# Altium footprint library Component Library.PcbLib: 16 footprints
Each footprint in its own frame and in the unit in brackets; x right, y up, seen from the top. Pads: shape width x height; smd on the part's side, far side on the other; paste and mask are expansions set on the pad; w line width, h text height; cw(c..) or ccw(c..) is an arc to the next point about the centre after c.
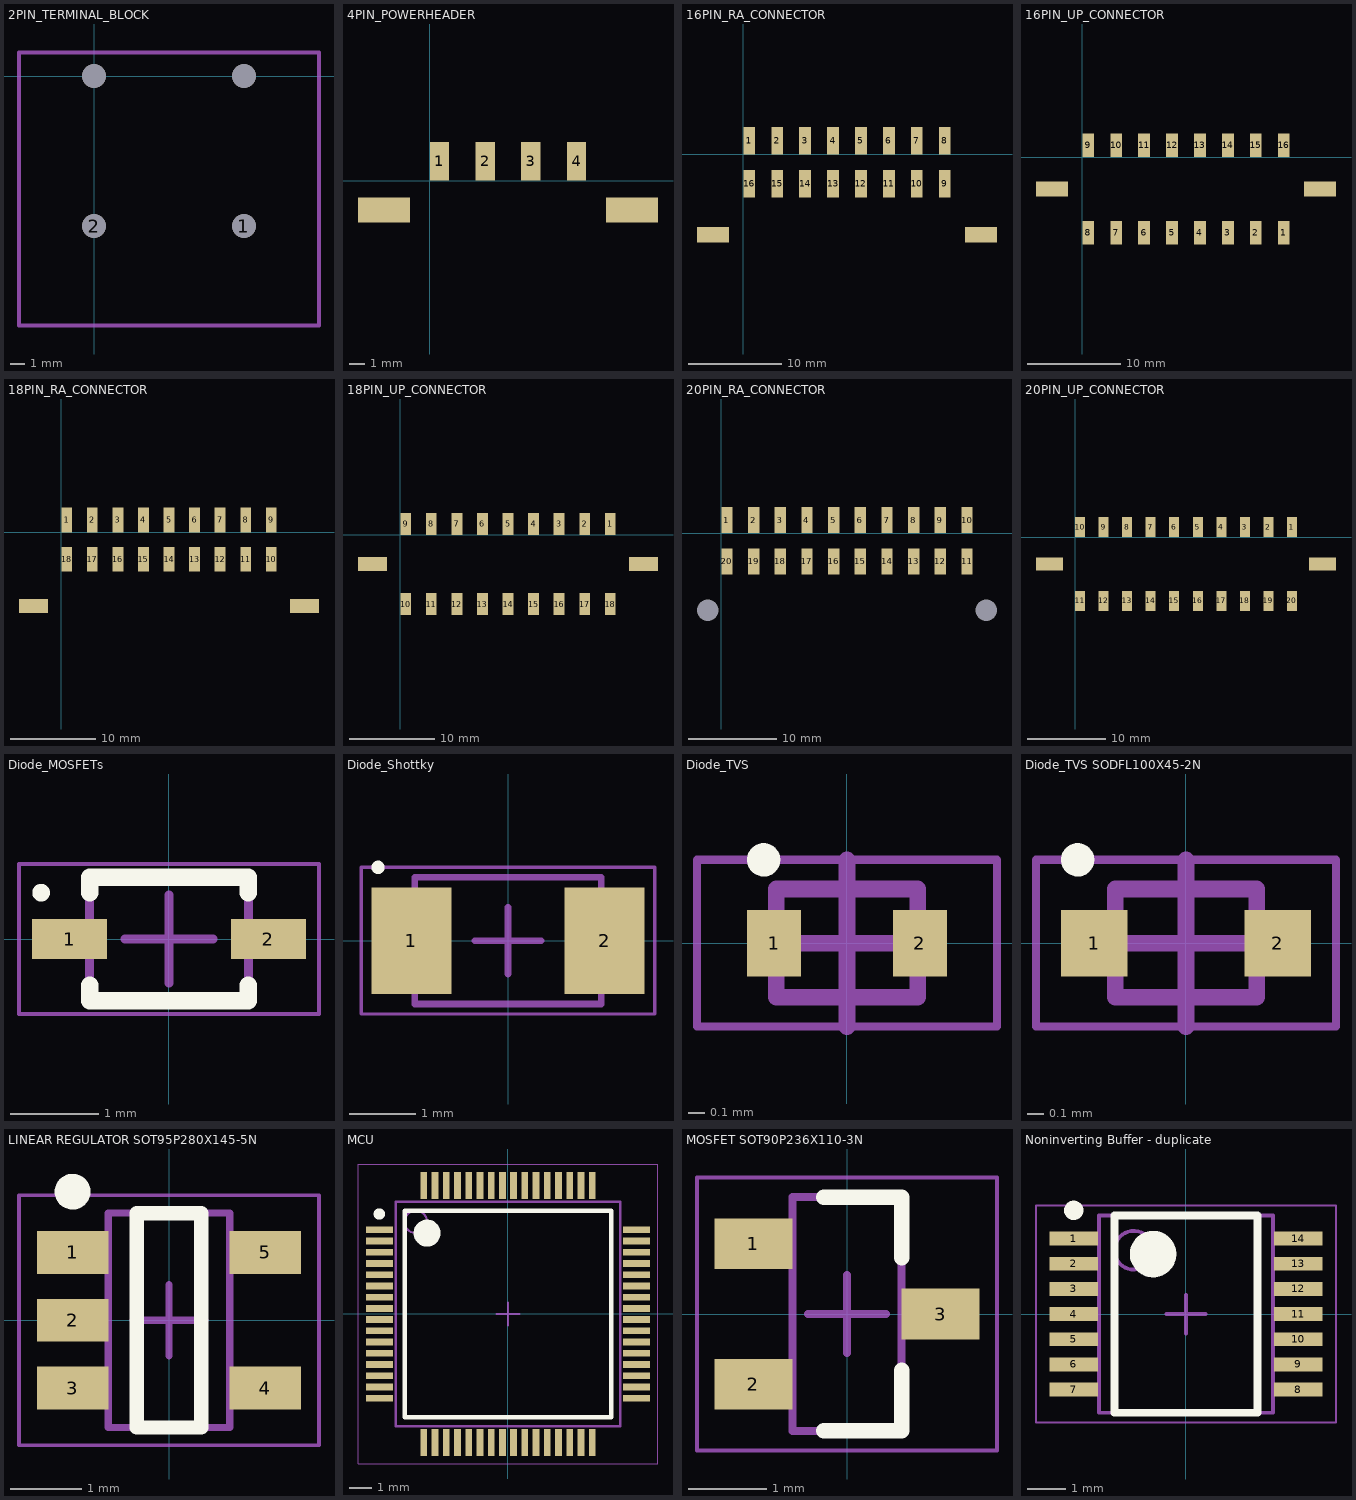
[diagram p0: the footprints below, top view; thin cyan lines are the x and y axes]

## 2PIN_TERMINAL_BLOCK [mm] "2 Position Wire to Board Terminal Block Horizontal with Board 0.400\" (10.16mm) Through Hole"
height 28.5
pads (4):
  round 1.6 hole 1.6: 1(10.16,-10.16) 2(0,-10.16) ""(0,0) ""(10.16,0)
Mechanical 1:
  lines w0.254: -5.08,-16.9 15.24,-16.9 15.24,1.6 -5.08,1.6 -5.08,-16.9
3D body: height 28.5, standoff 0.02, extent -5.08,-16.9 15.24,1.6

## 4PIN_POWERHEADER [mm]
height 9.24
pads (6):
  rect 1.27x2.54 smd: 1(0.635,1.27) 2(3.635,1.27) 3(6.635,1.27) 4(9.635,1.27)
  rect 3.43x1.65 smd: ""(-3,-1.93) ""(13.27,-1.93)
3D body: height 9.24, standoff 0, extent -3,-3 13,3

## 16PIN_RA_CONNECTOR [mm] "662 0xx 231 722"
height 6.86
pads (18):
  rect 1.27x2.92 smd: 1(0.635,1.46) 2(3.635,1.46) 3(6.635,1.46) 4(9.635,1.46) 5(12.635,1.46) 6(15.635,1.46) 7(18.635,1.46) 8(21.635,1.46) 9(21.635,-3.16) 10(18.635,-3.16) 11(15.635,-3.16) 12(12.635,-3.16) 13(9.635,-3.16) 14(6.635,-3.16) 15(3.635,-3.16) 16(0.635,-3.16)
  rect 3.43x1.65 smd: ""(-3.26,-8.64) ""(25.53,-8.64)
3D body "STEP-662016231722-rev1.stp": height 8.83, standoff 0.07, extent -4.425,-13.275 26.675,2.625

## 16PIN_UP_CONNECTOR [mm] "662 0xx 231 822"
height 9.9
pads (18):
  rect 1.27x2.54 smd: 1(21.635,-8.13) 2(18.635,-8.13) 3(15.635,-8.13) 4(12.635,-8.13) 5(9.635,-8.13) 6(6.635,-8.13) 7(3.635,-8.13) 8(0.635,-8.13) 9(0.635,1.27) 10(3.635,1.27) 11(6.635,1.27) 12(9.635,1.27) 13(12.635,1.27) 14(15.635,1.27) 15(18.635,1.27) 16(21.635,1.27)
  rect 3.43x1.65 smd: ""(-3.26,-3.43) ""(25.53,-3.43)
3D body "STEP-662016231822-rev1.stp": height 9.95, standoff 0.05, extent -4.925,-9.098 27.275,2.298

## 18PIN_RA_CONNECTOR [mm] "662 0xx 231 722"
height 6.86
pads (20):
  rect 1.27x2.92 smd: 1(0.635,1.46) 2(3.635,1.46) 3(6.635,1.46) 4(9.635,1.46) 5(12.635,1.46) 6(15.635,1.46) 7(18.635,1.46) 8(21.635,1.46) 9(24.635,1.46) 10(24.635,-3.16) 11(21.635,-3.16) 12(18.635,-3.16) 13(15.635,-3.16) 14(12.635,-3.16) 15(9.635,-3.16) 16(6.635,-3.16) 17(3.635,-3.16) 18(0.635,-3.16)
  rect 3.43x1.65 smd: ""(-3.26,-8.64) ""(28.53,-8.64)
3D body "18pin RA STEP-662018231722-rev1.stp": height 8.83, standoff 0.07, extent -4.4,-13.25 29.7,2.65

## 18PIN_UP_CONNECTOR [mm] "662 0xx 231 822"
height 6.86
pads (20):
  rect 1.27x2.54 smd: 1(24.635,1.27) 2(21.635,1.27) 3(18.635,1.27) 4(15.635,1.27) 5(12.635,1.27) 6(9.635,1.27) 7(6.635,1.27) 8(3.635,1.27) 9(0.635,1.27) 10(0.635,-8.13) 11(3.635,-8.13) 12(6.635,-8.13) 13(9.635,-8.13) 14(12.635,-8.13) 15(15.635,-8.13) 16(18.635,-8.13) 17(21.635,-8.13) 18(24.635,-8.13)
  rect 3.43x1.65 smd: ""(-3.26,-3.43) ""(28.53,-3.43)
3D body "STEP-662018231822-rev1.stp": height 9.95, standoff 0.05, extent -4.975,-9.075 30.225,2.321

## 20PIN_RA_CONNECTOR [mm] "662 0xx 230 822"
height 6.86
pads (22):
  rect 1.27x2.92 smd: 1(0.635,1.46) 2(3.635,1.46) 3(6.635,1.46) 4(9.635,1.46) 5(12.635,1.46) 6(15.635,1.46) 7(18.635,1.46) 8(21.635,1.46) 9(24.635,1.46) 10(27.635,1.46) 11(27.635,-3.16) 12(24.635,-3.16) 13(21.635,-3.16) 14(18.635,-3.16) 15(15.635,-3.16) 16(12.635,-3.16) 17(9.635,-3.16) 18(6.635,-3.16) 19(3.635,-3.16) 20(0.635,-3.16)
  round 1.524 hole 2.41: ""(-1.525,-8.64) ""(29.795,-8.64)
3D body "STEP-662020230822-rev1.stp": height 8.83, standoff -3.03, extent -2.725,-13.325 30.975,2.575

## 20PIN_UP_CONNECTOR [mm] "662 0xx 231 822"
height 9.9
pads (22):
  rect 1.27x2.54 smd: 1(27.635,1.27) 2(24.635,1.27) 3(21.635,1.27) 4(18.635,1.27) 5(15.635,1.27) 6(12.635,1.27) 7(9.635,1.27) 8(6.635,1.27) 9(3.635,1.27) 10(0.635,1.27) 11(0.635,-8.13) 12(3.635,-8.13) 13(6.635,-8.13) 14(9.635,-8.13) 15(12.635,-8.13) 16(15.635,-8.13) 17(18.635,-8.13) 18(21.635,-8.13) 19(24.635,-8.13) 20(27.635,-8.13)
  rect 3.43x1.65 smd: ""(-3.26,-3.43) ""(31.53,-3.43)
3D body "STEP-662020231822-rev1.stp": height 9.95, standoff 0.05, extent -4.95,-9.123 33.25,2.273

## Diode_MOSFETs [mm] "SODFL, 2-Leads, Body 1.25x2.50mm, IPC Medium Density"
height 1.1
pads (2):
  rect 0.85x0.45 smd: 1(-1.125,0) 2(1.125,0)
Top Overlay:
  circle w0.1: c-1.45,0.525 r0.05
  lines w0.2: -0.9,-0.525 -0.9,-0.7 0.9,-0.7 0.9,-0.525 ; -0.9,0.525 -0.9,0.7 0.9,0.7 0.9,0.525
Mechanical 13:
  lines w0.1: -0.9,-0.675 0.9,-0.675 0.9,0.675 -0.9,0.675 -0.9,-0.675
Mechanical 15:
  lines w0.05: -1.7,-0.85 1.7,-0.85 1.7,0.85 -1.7,0.85 -1.7,-0.85
  lines w0.1: -0.5,0 0.5,0 ; 0,-0.5 0,0.5
3D body: height 1.1, standoff 0, extent -0.9,-0.675 0.9,0.675

## Diode_Shottky [mm] "PMEG6020AELR"
height 1.1
pads (2):
  rect 1.2x1.6 smd: 1(-1.45,0) 2(1.45,0)
Top Overlay:
  circle w0.1: c-1.95,1.1 r0.05
Mechanical 13:
  lines w0.1: -1.4,-0.95 1.4,-0.95 1.4,0.95 -1.4,0.95 -1.4,-0.95
Mechanical 15:
  lines w0.05: -2.2,-1.1 2.2,-1.1 2.2,1.1 -2.2,1.1 -2.2,-1.1
  lines w0.1: -0.5,0 0.5,0 ; 0,-0.5 0,0.5
3D body: height 1.1, standoff 0, extent -1.4,-0.95 1.4,0.95

## Diode_TVS [mm] "DF2S10FS_SOD-923"
height 0.45
pads (2):
  rect 0.325x0.4 smd: 1(-0.437,0) 2(0.437,0)
Top Overlay:
  circle w0.1: c-0.5,0.5 r0.05
Mechanical 13:
  lines w0.1: -0.425,-0.325 0.425,-0.325 0.425,0.325 -0.425,0.325 -0.425,-0.325
Mechanical 15:
  lines w0.05: -0.9,-0.5 0.9,-0.5 0.9,0.5 -0.9,0.5 -0.9,-0.5
  lines w0.1: -0.5,0 0.5,0 ; 0,-0.5 0,0.5
3D body: height 0.45, standoff 0, extent -0.425,-0.325 0.425,0.325

## Diode_TVS SODFL100X45-2N [mm] "SODFL, 2-Leads, Body 0.60x1.00mm, IPC Medium Density"
height 0.45
pads (2):
  rect 0.4x0.4 smd: 1(-0.55,0) 2(0.55,0)
Top Overlay:
  circle w0.1: c-0.65,0.5 r0.05
Mechanical 13:
  lines w0.1: -0.425,-0.325 0.425,-0.325 0.425,0.325 -0.425,0.325 -0.425,-0.325
Mechanical 15:
  lines w0.05: -0.9,-0.5 0.9,-0.5 0.9,0.5 -0.9,0.5 -0.9,-0.5
  lines w0.1: -0.5,0 0.5,0 ; 0,-0.5 0,0.5
3D body: height 0.45, standoff 0, extent -0.425,-0.325 0.425,0.325

## LINEAR REGULATOR SOT95P280X145-5N [mm] "SOT23, 5-Leads, Body 2.90x2.80mm, Pitch 0.95mm, IPC Medium Density"
height 1.45
pads (5):
  rect 1x0.6 smd: 1(-1.35,0.95) 2(-1.35,0) 3(-1.35,-0.95) 4(1.35,-0.95) 5(1.35,0.95)
Top Overlay:
  circle w0.25: c-1.35,1.8 r0.125
  lines w0.2: -0.45,-1.5 0.45,-1.5 0.45,1.5 -0.45,1.5 -0.45,-1.5
Mechanical 13:
  lines w0.1: -0.85,-1.5 -0.85,1.5 0.85,1.5 0.85,-1.5 -0.85,-1.5
Mechanical 15:
  lines w0.05: -2.1,-1.75 -2.1,1.75 2.1,1.75 2.1,-1.75 -2.1,-1.75
  lines w0.1: -0.5,0 0.5,0 ; 0,-0.5 0,0.5
3D body: height 1.45, standoff 0.15, extent -0.85,-1.5 0.85,1.5

## MCU [mm] "TSQFP, 64-Leads, Body 10.00x10.00mm, Pitch 0.50mm, IPC Medium Density"
height 1.6
pads (64):
  rect 1.2x0.3 smd: 1(-5.725,3.75) 2(-5.725,3.25) 3(-5.725,2.75) 4(-5.725,2.25) 5(-5.725,1.75) 6(-5.725,1.25) 7(-5.725,0.75) 8(-5.725,0.25) 9(-5.725,-0.25) 10(-5.725,-0.75) 11(-5.725,-1.25) 12(-5.725,-1.75) 13(-5.725,-2.25) 14(-5.725,-2.75) 15(-5.725,-3.25) 16(-5.725,-3.75) 33(5.725,-3.75) 34(5.725,-3.25) 35(5.725,-2.75) 36(5.725,-2.25) 37(5.725,-1.75) 38(5.725,-1.25) 39(5.725,-0.75) 40(5.725,-0.25) 41(5.725,0.25) 42(5.725,0.75) 43(5.725,1.25) 44(5.725,1.75) 45(5.725,2.25) 46(5.725,2.75) 47(5.725,3.25) 48(5.725,3.75)
  rect 0.3x1.2 smd: 17(-3.75,-5.725) 18(-3.25,-5.725) 19(-2.75,-5.725) 20(-2.25,-5.725) 21(-1.75,-5.725) 22(-1.25,-5.725) 23(-0.75,-5.725) 24(-0.25,-5.725) 25(0.25,-5.725) 26(0.75,-5.725) 27(1.25,-5.725) 28(1.75,-5.725) 29(2.25,-5.725) 30(2.75,-5.725) 31(3.25,-5.725) 32(3.75,-5.725) 49(3.75,5.725) 50(3.25,5.725) 51(2.75,5.725) 52(2.25,5.725) 53(1.75,5.725) 54(1.25,5.725) 55(0.75,5.725) 56(0.25,5.725) 57(-0.25,5.725) 58(-0.75,5.725) 59(-1.25,5.725) 60(-1.75,5.725) 61(-2.25,5.725) 62(-2.75,5.725) 63(-3.25,5.725) 64(-3.75,5.725)
Top Overlay:
  circle w0.6: c-3.6,3.6 r0.3
  circle w0.25: c-5.725,4.45 r0.125
  lines w0.2: -4.6,-4.6 4.6,-4.6 4.6,4.6 -4.6,4.6 -4.6,-4.6
Mechanical 13:
  circle w0.1: c-4.1,4.1 r0.5
  lines w0.1: -5,-5 5,-5 5,5 -5,5 -5,-5
Mechanical 15:
  lines w0.05: -6.675,-6.675 6.675,-6.675 6.675,6.675 -6.675,6.675 -6.675,-6.675
  lines w0.1: -0.5,0 0.5,0 ; 0,-0.5 0,0.5
3D body: height 1.6, standoff 0.15, extent -5,-5 5,5

## MOSFET SOT90P236X110-3N [mm] "SOT23, 3-Leads, Body 2.90x2.36mm, Pitch 0.90mm, IPC Medium Density"
height 1.1
pads (3):
  rect 1x0.65 smd: 1(-1.2,0.9) 2(-1.2,-0.9) 3(1.2,0)
Top Overlay:
  lines w0.2: -0.3,-1.5 0.7,-1.5 0.7,-0.725 ; -0.3,1.5 0.7,1.5 0.7,0.725
Mechanical 13:
  lines w0.1: -0.7,-1.5 0.7,-1.5 0.7,1.5 -0.7,1.5 -0.7,-1.5
Mechanical 15:
  lines w0.05: -1.925,-1.75 1.925,-1.75 1.925,1.75 -1.925,1.75 -1.925,-1.75
  lines w0.1: -0.5,0 0.5,0 ; 0,-0.5 0,0.5
3D body: height 1.1, standoff 0.05, extent -0.7,-1.5 0.7,1.5

## Noninverting Buffer - duplicate [mm] "TSOP, 14-Leads, Body 5.00x4.40mm, Pitch 0.65mm, IPC Medium Density"
height 1.2
pads (14):
  rect 1.26x0.36 smd: 1(-2.9,1.95) 2(-2.9,1.3) 3(-2.9,0.65) 4(-2.9,0) 5(-2.9,-0.65) 6(-2.9,-1.3) 7(-2.9,-1.95) 8(2.9,-1.95) 9(2.9,-1.3) 10(2.9,-0.65) 11(2.9,0) 12(2.9,0.65) 13(2.9,1.3) 14(2.9,1.95)
Top Overlay:
  circle w0.6: c-0.85,1.55 r0.3
  circle w0.25: c-2.9,2.68 r0.125
  lines w0.2: -1.85,-2.55 1.85,-2.55 1.85,2.55 -1.85,2.55 -1.85,-2.55
Mechanical 13:
  circle w0.1: c-1.35,1.65 r0.5
  lines w0.1: -2.25,-2.55 2.25,-2.55 2.25,2.55 -2.25,2.55 -2.25,-2.55
Mechanical 15:
  lines w0.05: -3.875,-2.8 3.875,-2.8 3.875,2.8 -3.875,2.8 -3.875,-2.8
  lines w0.1: -0.5,0 0.5,0 ; 0,-0.5 0,0.5
3D body: height 1.2, standoff 0.05, extent -2.25,-2.55 2.25,2.55